# Altium footprint library BGA25C40P5X5_208X208X52.PcbLib: 1 footprints
Each footprint in its own frame and in the unit in brackets; x right, y up, seen from the top. Pads: shape width x height; smd on the part's side, far side on the other; paste and mask are expansions set on the pad; w line width, h text height; cw(c..) or ccw(c..) is an arc to the next point about the centre after c.
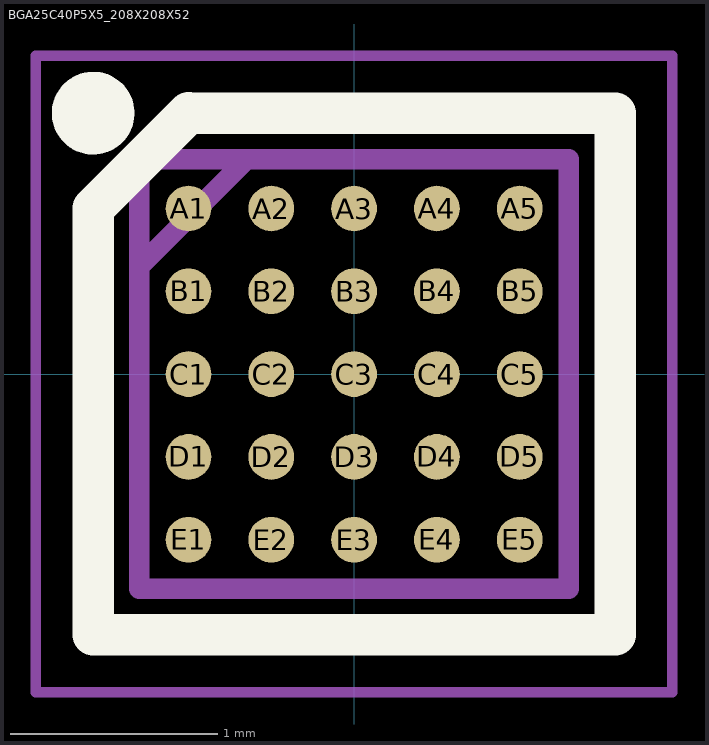
[diagram p0: the footprint, top view; thin cyan lines are the x and y axes]

## BGA25C40P5X5_208X208X52 [mm]
pads (25):
  round 0.221 smd: A1(-0.8,0.8) A2(-0.4,0.8) A3(0,0.8) A4(0.4,0.8) A5(0.8,0.8) B1(-0.8,0.4) B2(-0.4,0.4) B3(0,0.4) B4(0.4,0.4) B5(0.8,0.4) C1(-0.8,0) C2(-0.4,0) C3(0,0) C4(0.4,0) C5(0.8,0) D1(-0.8,-0.4) D2(-0.4,-0.4) D3(0,-0.4) D4(0.4,-0.4) D5(0.8,-0.4) E1(-0.8,-0.8) E2(-0.4,-0.8) E3(0,-0.8) E4(0.4,-0.8) E5(0.8,-0.8)
Top Overlay:
  circle w0.2: c-1.261,1.261 r0.1
  lines w0.2: -0.8,1.261 1.261,1.261 1.261,-1.26 -1.26,-1.26 -1.26,0.801 -0.799,1.262
Mechanical 15:
  lines w0.1: -1.038,0.519 -0.519,1.038 ; -1.038,-1.037 1.037,-1.037 1.037,1.038 -1.038,1.038 -1.038,-1.037
Mechanical 20:
  lines w0.05: -1.538,-1.537 1.537,-1.537 1.537,1.538 -1.538,1.538 -1.538,-1.537